# Altium schematic symbol library KEYPAD.SchLib: 2 symbols
Pins are listed as number, name and electrical type; pins without a type are passive.

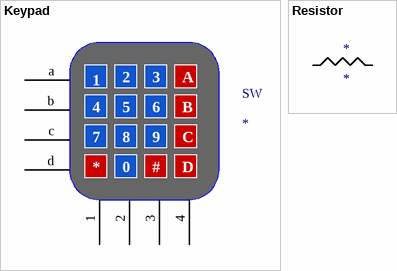
[diagram p0: symbols Keypad to Resistor]

## Keypad
designator SW
SWITCH KEYPAD 4X4; Manufacturer: Gearbox Labs; Mfr. Part number: PART 4X4 KEYPAD; Supplier: DigiKey; Supplier part number: 4166-PART4X4KEYPAD-ND
footprint Keypad
pins: 1 9, 2 10, 3 11, 4 12, a 5, b 6, c 7, d 8
text: A; B; C; D; 0; #

## Resistor
designator *
Manufacturer: Stackpole Electronics Inc; Mfr. Part number: CF14JT10K0; Supplier: DigiKey; Supplier part number: CF14JT10K0TR-ND
footprint resistor
pins: 14, 15